# Altium schematic symbol library U_NU5011A20.SchLib: 1 symbol
Pins are listed as number, name and electrical type; pins without a type are passive.

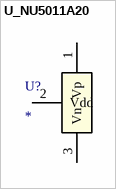
[diagram p0: symbol U_NU5011A20]

## U_NU5011A20
designator U?
pins: 1 Vp "Positive Voltage", 2 Vdd "Switching", 3 Vn "Negative Voltage"